# Altium schematic symbol library CRCW0402301RFKED.SchLib: 1 symbol
Pins are listed as number, name and electrical type; pins without a type are passive.

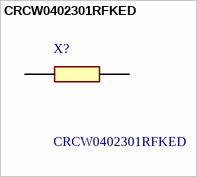
[diagram p0: symbol CRCW0402301RFKED]

## CRCW0402301RFKED
designator X?
Vishay CRCW Series Thick Film Surface Mount Resistor 402 Case 301 +/-1% 0.063W +/-100ppm/C; Geometry.Height: 0.4mm; Manufacturer_Name: Vishay; Manufacturer_Part_Number: CRCW0402301RFKED; Mouser Part Number: 71-CRCW0402-301-E3; Mouser Price/Stock: https://www.mouser.co.uk/ProductDetail/Vishay-Dale/CRCW0402301RFKED?qs=TNtMkGKFKOyEoDLmqluwsQ%3D%3D; Arrow Part Number: *; Arrow Price/Stock: *; Datasheet Link: http://www.vishay.com/docs/20035/dcrcwe3.pdf
footprint RESC1005X40N
pins: 1, 2